# Altium footprint library hi3516dv100.PcbLib: 78 footprints (part 3 of 5)
Each footprint in its own frame and in the unit in brackets; x right, y up, seen from the top. Pads: shape width x height; smd on the part's side, far side on the other; paste and mask are expansions set on the pad; w line width, h text height; cw(c..) or ccw(c..) is an arc to the next point about the centre after c.
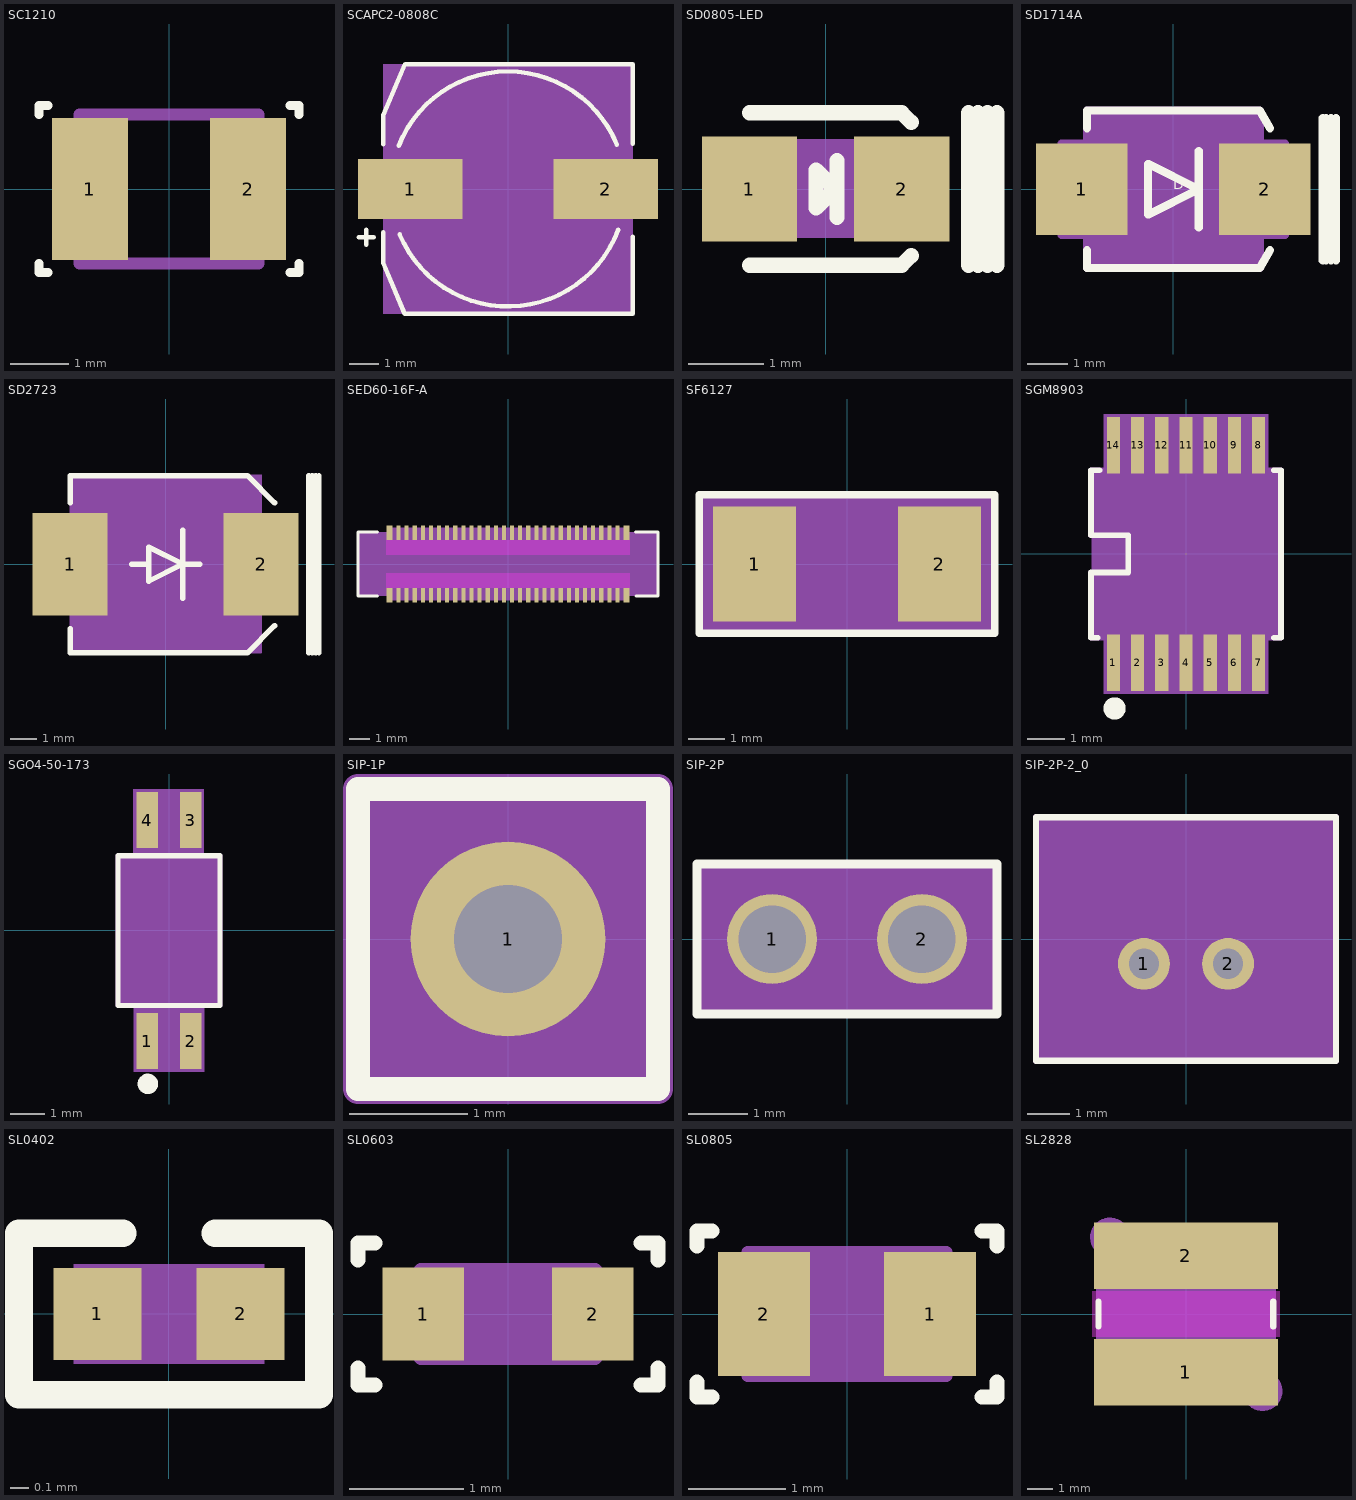
[diagram p2: the footprints below, top view; thin cyan lines are the x and y axes]

## SC1210 [mil] "SC1210"
pads (2):
  rect 51x95 smd: 1(-53,0) 2(53,0)
Top Overlay:
  lines w6: -87,-50 -87,-56 -81,-56 ; -87,50 -87,56 -81,56 ; 81,-56 87,-56 87,-50 ; 81,56 87,56 87,50
Mechanical 8:
  lines w1: -60,-50 -60,50 60,50 60,-50 -60,-50
  lines w8: -60,-50 -60,50 60,50 60,-50 -60,-50
Mechanical 12:
  text "2" at 53,-4 h10
  text "1" at -53,-4 h10

## SCAPC2-0808C [mil] "SCAPC2-0808C"
pads (2):
  rect 140x80 smd: 1(-131.02,0) 2(131.02,0)
Top Overlay:
  lines w6: -200,-64.4 -180,-64.4 ; -190,-74.4 -190,-54.4 ; -167.32,-57.92 -167.32,-98.19 -138.39,-167.32 167.32,-167.32 167.32,-64.28 ; -167.32,59.7 -167.32,98.19 -137.87,167.32 167.32,167.32 167.32,60.54 ; -146.48,57.83 cw(c0,0) 0,157.48 cw(c0,0) 145.93,59.19 ; -145.26,-60.81 ccw(c0,0.01) 147.73,-54.54
Top Paste:
  dashed: 61.02,24 61.02,-24 181.02,-24 181.02,-40 201.02,-40 201.02,40 181.02,40 181.02,24
  dashed: -61.02,-24 -61.02,24 -181.02,24 -181.02,40 -201.02,40 -201.02,-40 -181.02,-40 -181.02,-24
Mechanical 7:
  region: -167.32,-167.32 -167.32,-15.75 -181.1,-15.75 -181.1,15.75 -167.32,15.75 -167.32,167.32 167.32,167.32 167.32,15.75 181.1,15.75 181.1,-15.75 167.32,-15.75 167.32,-167.32
Mechanical 12:
  text "1" at -131.02,-4 h10
  text "2" at 131.02,-4 h10
Mechanical 255:
  lines w3: -25,0 25,0 ; 0,-25 0,25
3D body: height 150, standoff 0, extent -181.1,-167.32 181.1,167.32

## SD0805-LED [mil] "SD0805-LED"
pads (2):
  rect 50x55 smd: 1(-40,0) 2(40,0)
Top Overlay:
  lines w8: -40,-40 40,-40 45,-35 ; -40,40 40,40 45,35 ; 6,-15 6,15 ; 75,-40 75,40 ; 80,-40 80,40 ; 85,-40 85,40 ; 90,-40 90,40 ; -5,-10 5,0 -5,10 -5,-10
Mechanical 7:
  region: -40.5,-25.5 40.5,-25.5 40.5,25.5 -40.5,25.5
  lines w1: -40,-25 40,-25 40,25 -40,25 -40,-25
Mechanical 12:
  text "2" at 50,0 h25
  text "1" at -30,0 h25
Mechanical 15:
  dashed: -40,-25 41,-25 41,26 -40,26
3D body: height 150, standoff 0, extent -40.5,-25.5 40.5,25.5

## SD1714A [mil] "SD1714A"
pads (2):
  rect 90x90 smd: 1(-90,0) 2(90,0)
Top Overlay:
  lines w8: -85,-60 -85,-77.5 85,-77.5 95,-60 ; -85,60 -85,77.5 85,77.5 95,60 ; 25,-37.5 25,37.5 ; 147,-70 147,70 ; 150,-70 150,70 ; 155,-70 155,70 ; 160,-70 160,70 ; -25,-25 -25,25 25,0 -25,-25
  text "D" at 0,0 h10
Mechanical 7:
  region: 85,77.5 85,45 110,45 110,-45 85,-45 85,-77.5 -85,-77.5 -85,-45 -110,-45 -110,45 -85,45 -85,77.5
  lines w8: -110,-45 -110,45 -85,45 -85,77.5 85,77.5 85,45 110,45 110,-45 85,-45 85,-77.5 -85,-77.5 -85,-45 -110,-45
Mechanical 12:
  text "1" at -90,4 h10
  text "2" at 90,4 h10
Mechanical 15:
  dashed: 85,78 -85,78 -85,45 -110,45 -110,-45 -85,-45 -85,-77 85,-77 85,-45 110,-45 110,45 85,45
3D body: height 150, standoff 0, extent -110,-77.5 110,77.5

## SD2723 [mil] "SD2723"
pads (2):
  rect 110x150 smd: 1(-140,0) 2(140,0)
Top Overlay:
  lines w8: -140,-95 -140,-130 120,-130 160,-90 ; -140,90 -140,130 120,130 160,90 ; -50,0 -25,0 ; 25,-50 25,50 ; 50,0 25,0 ; 210,-130 210,130 ; 215,-130 215,130 ; 220,-130 220,130 ; 225,-130 225,130 ; 25,0 -25,-25 -25,25 25,0
Mechanical 7:
  region: -140.5,-130.5 140.5,-130.5 140.5,130.5 -140.5,130.5
  lines w1: -140,-130 -140,130 140,130 140,-130 -140,-130
Mechanical 12:
  text "1" at -140,4 h10
  text "2" at 140,4 h10
Mechanical 15:
  dashed: -140,-130 141,-130 141,131 -140,131
3D body: height 150, standoff 0, extent -140.5,-130.5 140.5,130.5

## SED60-16F-A [mil] "SED60-16F-A"
pads (60):
  rect 12x28 smd: 1(-230.35,-60.63) 2(-230.35,60.63) 59(230.35,-60.63) 60(230.35,60.63)
  rect 8x28 smd: 3(-212.6,-60.63) 4(-212.6,60.63) 5(-196.85,-60.63) 6(-196.85,60.63) 7(-181.1,-60.63) 8(-181.1,60.63) 9(-165.35,-60.63) 10(-165.35,60.63) 11(-149.61,-60.63) 12(-149.61,60.63) 13(-133.86,-60.63) 14(-133.86,60.63) 15(-118.11,-60.63) 16(-118.11,60.63) 17(-102.36,-60.63) 18(-102.36,60.63) 19(-86.61,-60.63) 20(-86.61,60.63) 21(-70.87,-60.63) 22(-70.87,60.63) 23(-55.12,-60.63) 24(-55.12,60.63) 25(-39.37,-60.63) 26(-39.37,60.63) 27(-23.62,-60.63) 28(-23.62,60.63) 29(-7.87,-60.63) 30(-7.87,60.63) 31(7.87,-60.63) 32(7.87,60.63) 33(23.62,-60.63) 34(23.62,60.63) 35(39.37,-60.63) 36(39.37,60.63) 37(55.12,-60.63) 38(55.12,60.63) 39(70.87,-60.63) 40(70.87,60.63) 41(86.61,-60.63) 42(86.61,60.63) 43(102.36,-60.63) 44(102.36,60.63) 45(118.11,-60.63) 46(118.11,60.63) 47(133.86,-60.63) 48(133.86,60.63) 49(149.61,-60.63) 50(149.61,60.63) 51(165.35,-60.63) 52(165.35,60.63) 53(181.1,-60.63) 54(181.1,60.63) 55(196.85,-60.63) 56(196.85,60.63) 57(212.6,-60.63) 58(212.6,60.63)
Top Layer keep-out:
  region: 236.34,-46.46 236.34,-18.11 -236.36,-18.11 -236.36,-46.46
  region: 236.34,46.46 236.34,18.11 -236.36,18.11 -236.36,46.46
Top Overlay:
  lines w6: -253.47,-61.81 -291.34,-61.81 -291.34,61.81 -253.33,61.81 ; 247.59,61.81 291.34,61.81 291.34,-61.81 248.44,-61.81
Mechanical 7:
  region: -234.66,-70.47 -234.66,-61.81 -291.34,-61.81 -291.34,61.81 -234.66,61.81 -234.66,70.47 234.64,70.47 234.64,61.81 291.34,61.81 291.34,-61.81 234.64,-61.81 234.64,-70.47
3D body: height 150, standoff 0, extent -291.34,-70.47 291.34,70.47

## SF6127 [mil] "SF6127"
pads (2):
  rect 90x125 smd: 1(-100,0) 2(100,0)
Top Overlay:
  lines w8: -160,-75 160,-75 160,75 -160,75 -160,-75
Mechanical 7:
  region: -160,75 160,75 160,-75 -160,-75
Mechanical 12:
  text "1" at -100,4 h10
  text "2" at 100,4 h10
Mechanical 15:
  dashed: -160,-75 160,-75 160,75 -160,75
3D body: height 150, standoff 0, extent -160,-75 160,75

## SGM8903 [mil] "SGM8903"
pads (14):
  rect 14x60 smd: 1(-77.16,-115) 2(-51.57,-115) 3(-25.98,-115) 4(-0.39,-115) 5(25.2,-115) 6(50.79,-115) 7(76.38,-115) 8(76.38,115) 9(50.79,115) 10(25.2,115) 11(-0.39,115) 12(-25.98,115) 13(-51.57,115) 14(-77.16,115)
Top Overlay:
  circle w11.81: c-75.98,-163.39 r5.9
  lines w6: -93.66,-88.58 -100.78,-88.58 -100.78,-19.69 -61.41,-19.69 -61.41,19.69 -100.78,19.69 -100.78,88.58 -91.8,88.58 ; 92.48,88.58 100,88.58 100,-88.58 92.69,-88.58
Mechanical 7:
  region: -87.39,90 -87.39,148 86.61,148 86.61,90 86.62,90 86.62,87.4 100,87.4 100,-87.01 86.61,-87.01 86.61,-90 86.61,-148 -87.39,-148 -87.39,-90 -90.39,-90 -100,-90 -100,87.4 -87.39,87.4
Mechanical 13:
  lines w6: -100.78,-88.58 100,-88.58 100,88.58 -100.78,88.58 -100.78,19.69 -61.41,19.69 -61.41,-19.69 -100.78,-19.69 -100.78,-88.58
3D body: height 150, standoff 0, extent -100,-148 100,148

## SGO4-50-173 [mil] "SGO4-50-173"
pads (4):
  rect 25x65 smd: 1(-25,-128.15) 2(25,-128.15) 3(25,127.75) 4(-25,127.75)
Top Overlay:
  circle w11.81: c-24.45,-177.72 r5.91
  lines w6: -59.06,-86.81 -59.06,86.41 59.06,86.41 59.06,-86.81 -59.06,-86.81
Mechanical 7:
  region: -59.06,-86.81 -41.06,-86.81 -41.06,-163.78 40.83,-163.78 40.83,-86.81 59.06,-86.81 59.06,86.41 40.47,86.41 40.47,163.78 -41.61,163.78 -41.61,86.41 -59.06,86.41
Mechanical 12:
  text "2" at 25,-124.15 h10
  text "3" at 25,131.75 h10
  text "4" at -25,131.75 h10
  text "1" at -25,-124.15 h10
Mechanical 13:
  lines w6: -59.06,-86.81 -59.06,86.41 59.06,86.41 59.06,-86.81 -59.06,-86.81
3D body: height 150, standoff 0, extent -59.06,-163.78 59.06,163.78

## SIP-1P [mil] "SIP-1P"
pads (1):
  round 65 hole 36: 1(0,0)
Top Overlay:
  lines w8: -50,-50 -50,50 50,50 50,-50 -50,-50
Mechanical 7:
  region: -50,-50 50,-50 50,50 -50,50
  lines w10: -50,-50 -50,50 50,50 50,-50 -50,-50
Mechanical 14:
  text "1" at 0,-10 h25
Mechanical 15:
  dashed: -50,-50 50,-50 50,50 -50,50
Mechanical 16:
  lines w1: -50,-50 -50,50 50,50 50,-50 -50,-50
3D body: height 150, standoff 0, extent -50,-50 50,50

## SIP-2P [mil] "SIP-2P"
pads (2):
  round 60 hole 45: 1(-50,0) 2(50,0)
Top Overlay:
  lines w6: -100,-50 -100,50 100,50 100,-50 -100,-50
Mechanical 7:
  region: -100,-50 100,-50 100,50 -100,50
Mechanical 12:
  text "1" at -50,0 h0.01
  text "2" at 50,0 h0.01
3D body: height 150, standoff 0, extent -100,-50 100,50

## SIP-2P-2_0 [mil] "SIP-2P-2_0"
pads (2):
  round 48 / inner round 60 / far side round 48 hole 28: 1(-39,-23)
  round 48 hole 28: 2(39,-23)
Top Overlay:
  lines w6: -139,-113 -139,113 139,113 139,-113 -139,-113
Mechanical 7:
  region: -139,-113 -139,113 139,113 139,-113
Mechanical 13:
  lines w6: -139,-113 -139,113 139,113 139,-113 -139,-113
3D body: height 150, standoff 0, extent -139,-113 139,113

## SL0402 [mil] "SL0402"
pads (2):
  rect 19x20 smd: 1(-15.5,0) 2(15.5,0)
Top Overlay:
  lines w6: -10,17.5 -32.5,17.5 -32.5,-17.5 32.5,-17.5 32.5,17.5 10,17.5
Top Paste:
  dashed: -25,-10 -6,-10 -9,0 -6,10 -25,10
  dashed: 6,-10 25,-10 25,10 6,10 9,0
Mechanical 8:
  region: -20.67,-10.83 -20.67,10.83 20.67,10.83 20.67,-10.83
3D body: height 150, standoff 0, extent -20.67,-10.83 20.67,10.83

## SL0603 [mil] "SL0603"
pads (2):
  rect 28x32 smd: 1(-29.13,0) 2(29.13,0)
Top Overlay:
  lines w5.12: -51.57,-18.5 -51.57,-24.41 -45.67,-24.41 ; -51.57,18.5 -51.57,24.41 -45.67,24.41 ; 45.67,-24.41 51.57,-24.41 51.57,-18.5 ; 45.67,24.41 51.57,24.41 51.57,18.5
Mechanical 7:
  region: -29.92,-14.96 29.92,-14.96 29.92,14.96 -29.92,14.96
  lines w5.12: -29.92,-14.96 -29.92,14.96 29.92,14.96 29.92,-14.96 -29.92,-14.96
3D body: height 150, standoff 0, extent -29.92,-14.96 29.92,14.96

## SL0805 [mil] "SL0805"
pads (2):
  rect 37x50 smd: 1(33.5,0) 2(-33.5,0)
Top Overlay:
  lines w6: -60.5,-27.5 -60.5,-33.5 -54.5,-33.5 ; -60.5,27.5 -60.5,33.5 -54.5,33.5 ; 54.5,-33.5 60.5,-33.5 60.5,-27.5 ; 54.5,33.5 60.5,33.5 60.5,27.5
Mechanical 8:
  region: 40,25 40,-25 -40,-25 -40,25
  lines w5: -40,-25 40,-25 40,25 -40,25 -40,-25
3D body: height 150, standoff 0, extent -40,-25 40,25

## SL2828 [mil] "SL2828"
pads (2):
  rect 290x105 smd: 1(-0.52,-91) 2(-0.52,92.08)
Top Layer keep-out:
  region: -148.52,36.54 147.48,36.54 147.48,-35.46 -148.52,-35.46
Top Overlay:
  lines w10: -138.32,-19.15 -138.32,20.23 ; 137.28,-19.15 137.28,20.23
Mechanical 7:
  region: 137.28,138.34 137.28,-99.46 139.1,-101.03 140.78,-102.75 142.3,-104.61 143.65,-106.6 144.83,-108.69 145.82,-110.88 146.61,-113.15 147.2,-115.48 147.59,-117.85 147.77,-120.25 147.74,-122.65 147.5,-125.05 147.05,-127.41 146.4,-129.72 145.55,-131.97 144.5,-134.13 143.27,-136.2 141.87,-138.15 140.3,-139.97 138.58,-141.65 136.72,-143.17 134.73,-144.52 132.64,-145.7 130.45,-146.69 128.18,-147.48 125.85,-148.07 123.48,-148.46 121.08,-148.64 118.68,-148.61 116.28,-148.37 113.92,-147.92 111.61,-147.27 109.36,-146.42 107.2,-145.37 105.13,-144.14 103.18,-142.74 101.36,-141.17 99.68,-139.45 98.16,-137.59 97.91,-137.26 -138.32,-137.26 -138.32,100.54 -140.06,102.18 -141.65,103.97 -143.07,105.89 -144.33,107.92 -145.4,110.06 -146.28,112.29 -146.96,114.58 -147.44,116.92 -147.72,119.29 -147.79,121.68 -147.65,124.07 -147.3,126.44 -146.74,128.76 -145.99,131.03 -145.04,133.23 -143.9,135.33 -142.59,137.33 -141.1,139.2 -139.46,140.94 -137.67,142.53 -135.75,143.95 -133.72,145.21 -131.58,146.28 -129.35,147.16 -127.06,147.84 -124.72,148.32 -122.35,148.6 -119.96,148.67 -117.57,148.53 -115.2,148.18 -112.88,147.62 -110.61,146.87 -108.41,145.92 -106.31,144.78 -104.31,143.47 -102.44,141.98 -100.7,140.34 -99.11,138.55 -98.95,138.34
  lines w8: -138.32,-137.26 97.91,-137.26 ccw(c120.23,-121.11) 137.28,-99.47 137.28,138.34 -98.95,138.34 ccw(c-120.38,121.26) -138.32,100.54 -138.32,-137.26
Mechanical 12:
  text "1" at -0.52,-95 h10
  text "2" at -0.52,88.08 h10
3D body: height 150, standoff 0, extent -147.79,-148.64 147.77,148.67